# Altium schematic symbol library SO-0715-02-01-01-L.SchLib: 1 symbol
Pins are listed as number, name and electrical type; pins without a type are passive.

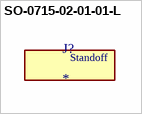
[diagram p0: symbol SO-0715-02-01-01-L]

## SO-0715-02-01-01-L
designator J?
MP: SO-0715-02-01-01-L; MF: {'manufacturer': u'Samtec'}; Availability: Unavailable; Value: *; Package: None; Price: None
text: Standoff